# Altium schematic symbol library Random.SchLib: 18 symbols
Pins are listed as number, name and electrical type; pins without a type are passive.

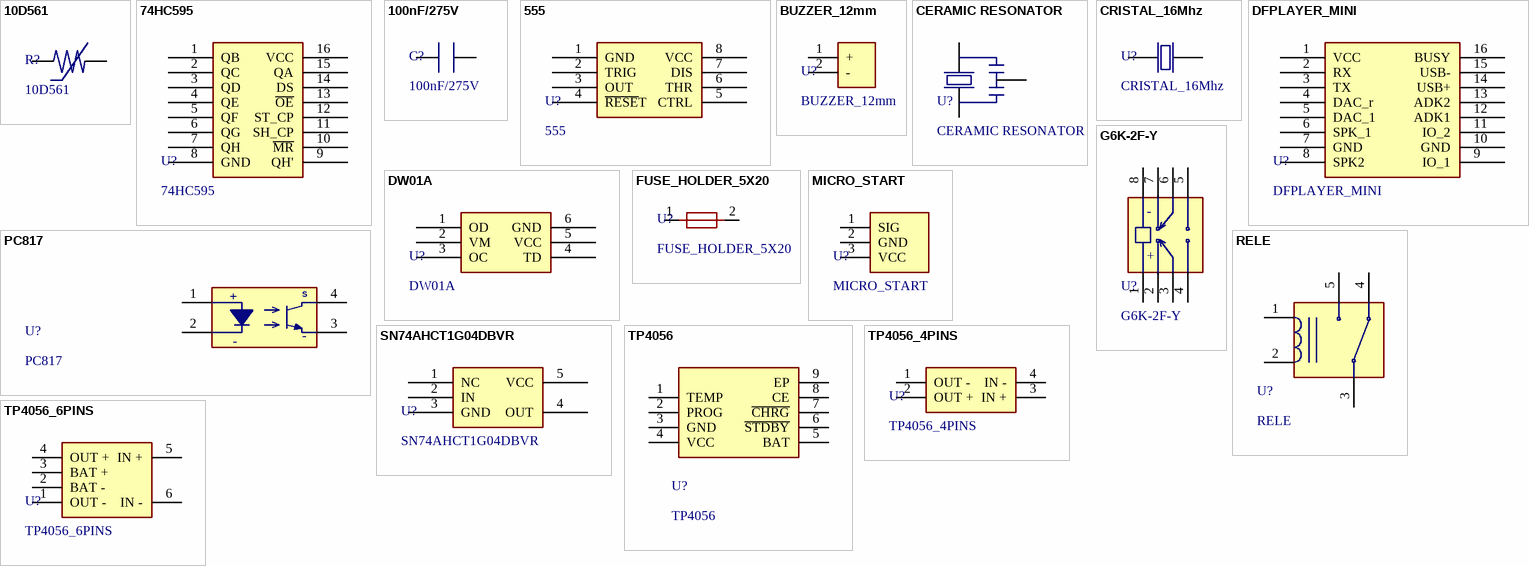
[diagram p0: symbols 10D561 to TP4056_6PINS]

## 10D561
designator R?
footprint 10D561
pins: 1, 2

## 74HC595
designator U?
SHIFT REGISTER 8-BIT DIP-16; ComponentLink1Description: Datasheet; ComponentLink1URL: https://www.ti.com/lit/ds/symlink/sn74hc595.pdf?ts=1673556046554&ref_url=https%253A%252F%252Fwww.ti.com%252Fproduct%252FSN74HC595; JLCPCB PN: C110383
footprint 74HC595 (SHIFT REGISTER 8-BIT DIP-16)
pins: 1 QB, 2 QC, 3 QD, 4 QE, 5 QF, 6 QG, 7 QH, 8 GND, 9 QH', 10 ~{MR}, 11 SH_CP, 12 ST_CP, 13 ~{OE}, 14 DS, 15 QA, 16 VCC

## 100nF/275V
designator C?
footprint 100nF/275V
pins: 1, 2

## 555
designator U?
CI TIMER/OSCILATOR 100kHz; ComponentLink1Description: Datasheet; ComponentLink1URL: https://www.ti.com/lit/ds/symlink/ne555.pdf?HQS=dis-mous-null-mousermode-dsf-pf-null-wwe&ts=1678668318661&ref_url=https%253A%252F%252Fwww.mouser.com%252F; JLCPCB PN SMD: C181735; JLCPCB PN DIP: C398063
footprint NE555_PTH
footprint NE555_SMD
pins: 1 GND, 2 TRIG, 3 OUT, 4 ~{RESE}T, 5 CTRL, 6 THR, 7 DIS, 8 VCC

## BUZZER_12mm
designator U?
BUZZER MAGNETIC 12MM; Digikey PN: 433-WT-1209T-ND; Mouser PN: 433-WT-1209T-ND; JLCPCB PN: C781866
footprint BUZZER_12mm (BUZZER MAGNETIC 12MM)
pins: 1 +, 2 -

## CERAMIC RESONATOR
designator U?
Generic Ceramic Ressonator 3.2x1.3mm
footprint CERAMIC_RESONATOR
pins: 1 (power), 2 (power), 3 (power)

## CRISTAL_16Mhz
designator U?
CRYSTAL 16MHZ, PTH and SMD; Mouser PN: 449-LFXTAL022786BULK; Digikey PN: 3155-16M20P2/49US-ND
footprint CRISTAL_16Mhz (CRYSTAL 16MHZ PTH)
footprint CRISTAL_16Mhz_SMD
pins: 1 (power), 2 (power)

## DFPLAYER_MINI
designator U?
MP3 Module, 3W, 3.3-5V.
footprint DFPLAYER_MINI
pins: 1 VCC, 2 RX, 3 TX, 4 DAC_r, 5 DAC_1, 6 SPK_1, 7 GND, 8 SPK2, 9 IO_1, 10 GND, 11 IO_2, 12 ADK1, 13 ADK2, 14 USB+, 15 USB-, 16 BUSY

## DW01A
designator U?
BATTERY PROTECTION IC  SOT-23-6; ComponentLink1Description: Datasheet; ComponentLink1URL: https://datasheet.lcsc.com/szlcsc/1901091236_PUOLOP-DW01A_C351410.pdf; JLCPCB PN: C2927799
footprint DW01A (BATTERY PROTECTION IC)
pins: 1 OD, 2 VM, 3 OC, 4 TD, 5 VCC, 6 GND

## FUSE_HOLDER_5X20
designator U?
footprint FUSE_HOLDER_5X20
pins: 1, 2

## G6K-2F-Y
designator U?
Micro Relé SMD Dual Channel, 5V/12V/24V, 6.5x10mm.
footprint G6K-2F-Y
pins: 1, 2, 3, 4, 5, 6, 7, 8
text: -; +

## MICRO_START
designator U?
Module Start for Robbot Sumo.
footprint MICRO_START
pins: 1 SIG, 2 GND, 3 VCC

## PC817
designator U?
Optocouplers Phototransistor 4 Pins, DIP and SMD.; ComponentLink1Description: Datasheet; ComponentLink1URL: https://www.farnell.com/datasheets/73758.pdf; JLCPCB PN SMD: C3025164; JLCPCB PN DIP: C3008368
footprint PC817_SMD
footprint PC817_DIP
pins: 1 VCC, 2 GND, 3 GND, 4 SIGNAL
text: +; S; -

## RELE
designator U?
Generic Rele PTH 5 Pins.
footprint RELE
pins: 1, 2, 3, 4, 5

## SN74AHCT1G04DBVR
designator U?
CI SINGLE INVERTER GATE, SOT-23-5.; Digikey PN: 296-1112-2-ND; Mouser PN: 595-SN74AHCT1G04DBVR; ComponentLink1Description: Datasheet; ComponentLink1URL: https://www.ti.com/lit/ds/symlink/sn74ahct1g04.pdf?ts=1678680622800&ref_url=https%253A%252F%252Fwww.google.com%252F; JLCPCB PN: C30326
footprint SN74AHCT1G04DBVR
pins: 1 NC, 2 IN, 3 GND, 4 OUT, 5 VCC

## TP4056
designator U?
CHIP BATTERY CHARGER 1A SOP-8-EP; ComponentLink1Description: Datasheet; ComponentLink1URL: https://dlnmh9ip6v2uc.cloudfront.net/datasheets/Prototyping/TP4056.pdf; JLCPCB PN: C725790
footprint TP4056 (CHIP BATTERY CHARGER)
pins: 1 TEMP, 2 PROG, 3 GND, 4 VCC, 5 BAT, 6 ~{STDBY}, 7 ~{CHRG}, 8 CE, 9 EP

## TP4056_4PINS
designator U?
MODULE BATTERY CHARGER 4 PINS
footprint TP4056_4PINs (MODULE BATTERY CHARGER)
pins: 1 OUT -, 2 OUT +, 3 IN +, 4 IN -

## TP4056_6PINS
designator U?
MODULE BATTERY CHARGER 6 PINS
footprint TP4056_6PINs (MODULE BATTERY CHARGER)
pins: 1 OUT -, 2 BAT -, 3 BAT +, 4 OUT +, 5 IN +, 6 IN -